# Altium schematic symbol library CR0805-JW-202ELF.SchLib: 1 symbol
Pins are listed as number, name and electrical type; pins without a type are passive.

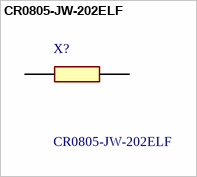
[diagram p0: symbol CR0805-JW-202ELF]

## CR0805-JW-202ELF
designator X?
Bourns CR0805 Series Thick Film Surface Mount Resistor 0805 Case 2k +/-5% 0.125W +/-200ppm/C; Geometry.Height: 0.6mm; Mouser Part Number: 652-CR0805JW-202ELF; Mouser Price/Stock: https://www.mouser.co.uk/ProductDetail/Bourns/CR0805-JW-202ELF?qs=wL7NMIHXUPnyGz%2Fa3t%2FGQg%3D%3D; Manufacturer_Name: Bourns; Manufacturer_Part_Number: CR0805-JW-202ELF; Datasheet Link: https://www.bourns.com/pdfs/chpreztr.pdf
footprint RESC2012X60N
pins: 1, 2